# Altium schematic symbol library BAS20HT1G.SchLib: 1 symbol
Pins are listed as number, name and electrical type; pins without a type are passive.

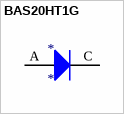
[diagram p0: symbol BAS20HT1G]

## BAS20HT1G
designator *
footprint DIO_1N4148WS-G_RVG
pins: A, C